# EAGLE library part 2.4TFT_SPI_240X320_LCD_ILI9341 (library air_quality_monitor)
2.2 inch 240x320 TFT LCD Module with SPI Interface.
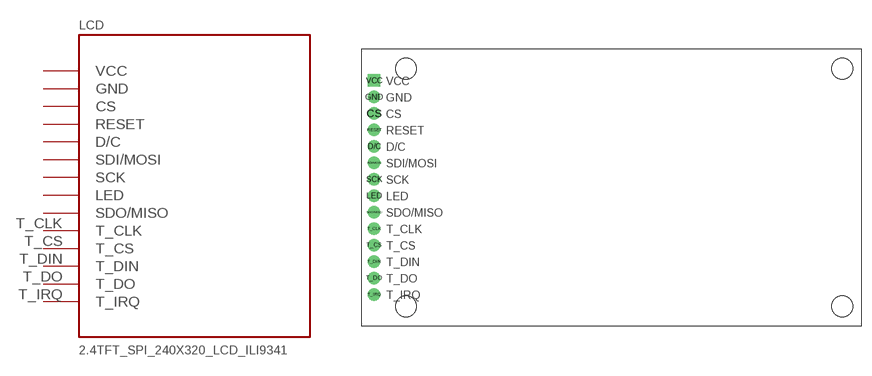
[diagram p1: symbol with the pads of 2.4TFT_SPI_240X320_LCD_ILI9341; footprint 2.4TFT_SPI_240X320_LCD_ILI9341]

Designator prefix LCD

## 2.4TFT_SPI_240X320_LCD_ILI9341  [2.4TFT_SPI_240X320_LCD_ILI9341]
CS  CS
D/C  D/C
GND  GND
LED  LED
RESET  RESET
SCK  SCK
SDI/MOSI  SDI/MOSI
SDO/MISO  SDO/MISO
T_CLK  T_CLK
T_CS  T_CS
T_DIN  T_DIN
T_DO  T_DO
T_IRQ  T_IRQ
VCC  VCC

## Footprint 2.4TFT_SPI_240X320_LCD_ILI9341 (pad centres in mm)
2.2 inch 240x320 TFT LCD Module with SPI Interface.
drill 1.1 pad 1.93: CS 2,32.79; D/C 2,27.71; GND 2,35.33; LED 2,20.09; RESET 2,30.25; SCK 2,22.63; SDI/MOSI 2,25.17; SDO/MISO 2,17.55; T_CLK 2,15.01; T_CS 2,12.47; T_DIN 2,9.93; T_DO 2,7.39; T_IRQ 2,4.85
drill 1.1 pad 1.93 square: VCC 2,37.87